# Altium integrated library Silicon Labs Clocks and Oscillators.IntLib: 678 symbols (part 13 of 45)
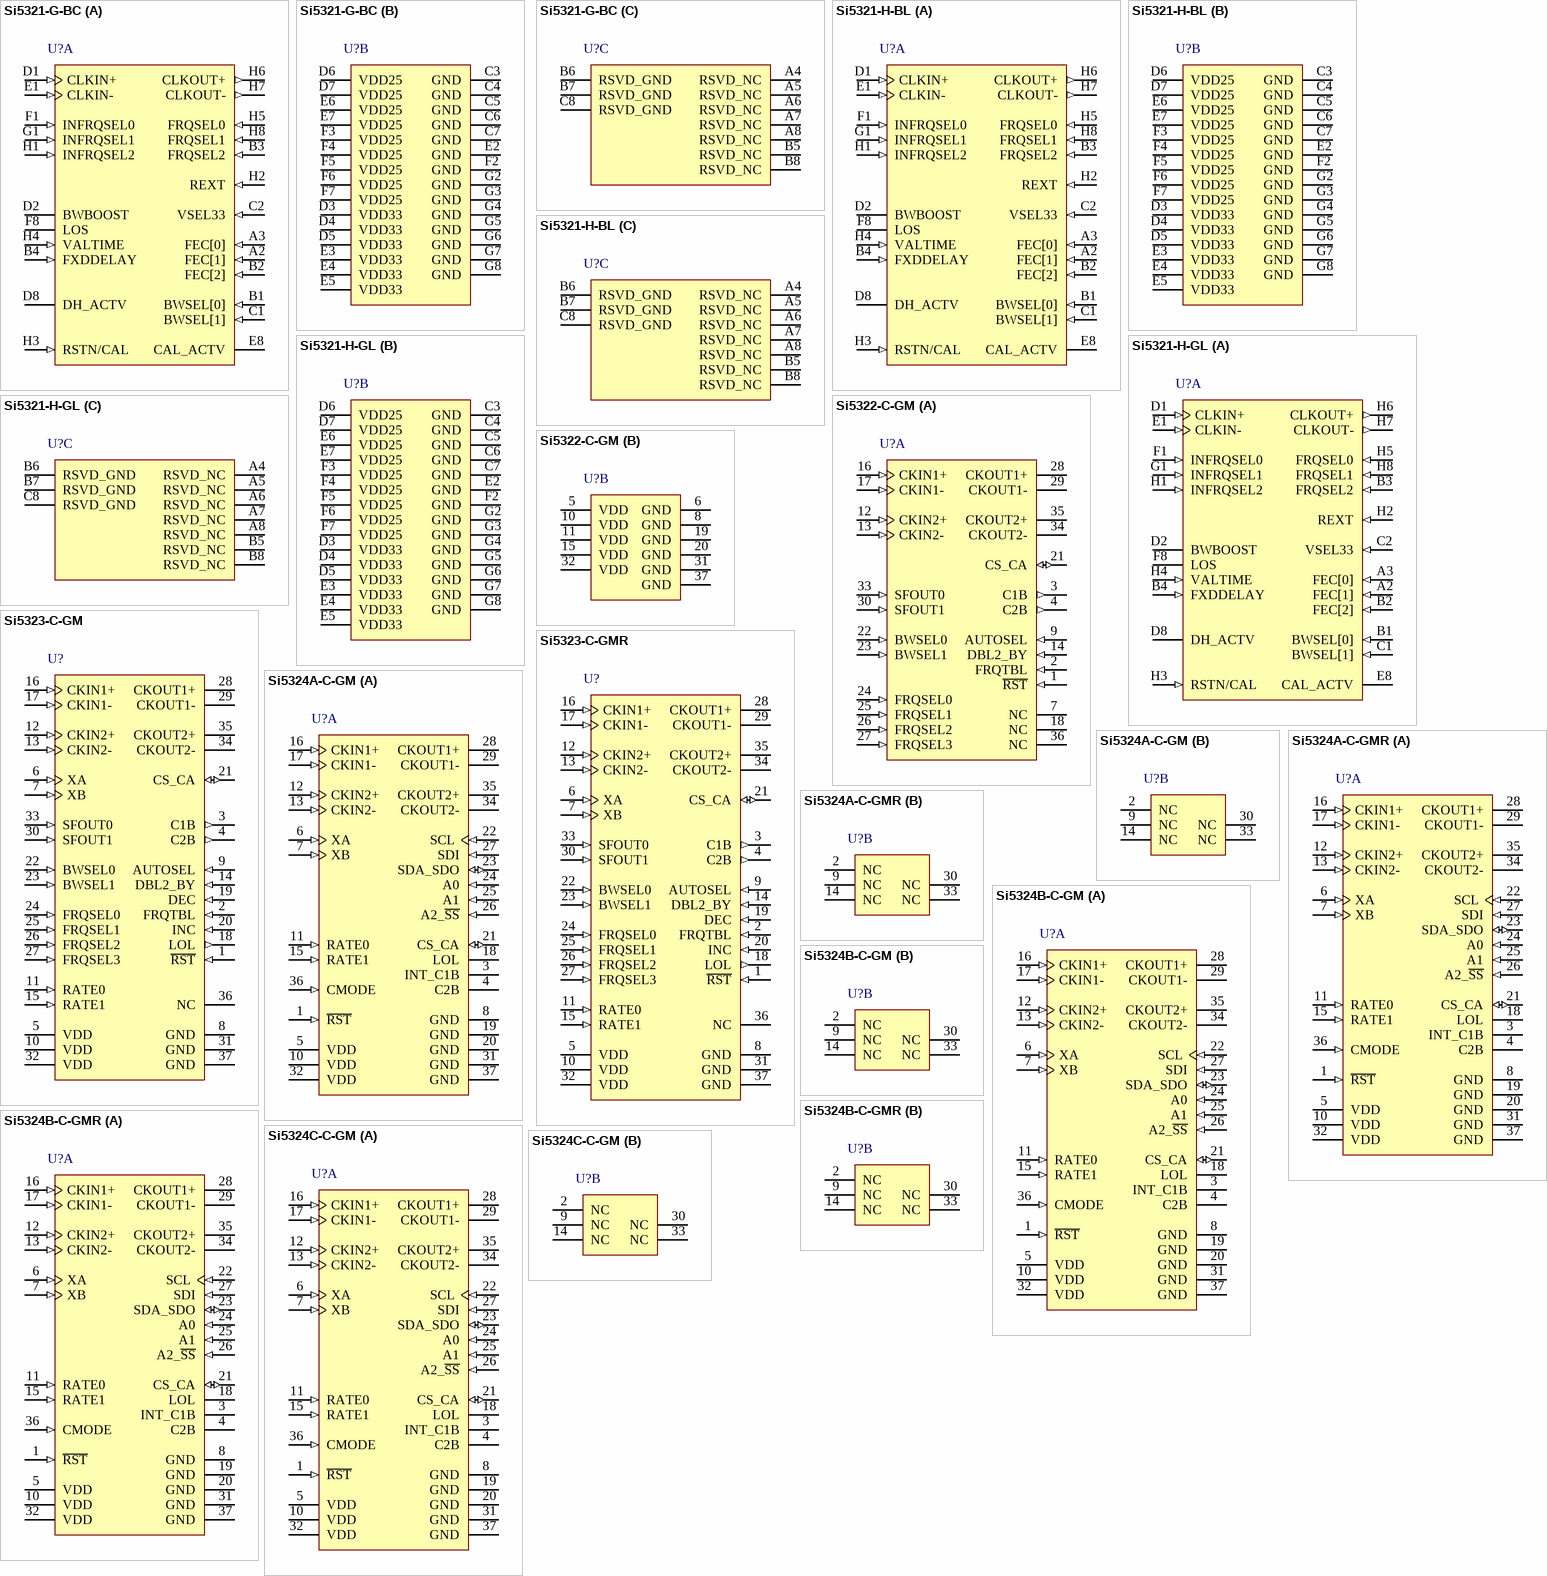
[diagram p56: symbols Si5321-G-BC to Si5324C-C-GM]

## Si5321-H-GL
designator U?
SONET / SDH Precision Clock Multiplier IC, 3.3 V, 2488 MHz Max Output, -20 to 85 degC, 63-pin BGA; Manufacturer: Silicon Labs; PartNumber: Si5321-H-GL; Output Format: CML; Output Frequency (MHz): 19; 38; 77; 155; 311; 622; 1244; 2488; Reference Inputs: 1; VDD: 3.3 V; Sub-Family: Clock Generators; DatasheetVersion: Rev. 2.5; PackageReference: PBGA-63; PackageDescription: 63-Ball Plastic Ball Grid Array, Body 9 x 9 mm, Pitch 1 mm; Supplier 1: Digi-Key; Supplier Part Number 1: SI5321-H-GL-ND; Supplier 2: Mouser; Supplier Part Number 2: 634-SI5321-H-GL; Mounting Technology: Surface Mount; Code_JEDEC: MO-192; Code_IPC: J-STD-020C; ComponentLink1Description: Manufacturer URL; ComponentLink1URL: http://www.silabs.com/; ComponentLink2Description: Datasheet; ComponentLink2URL: http://www.silabs.com/Support%20Documents/TechnicalDocs/si5321.pdf; ComponentLink3Description: Package Specification; ComponentLink3URL: http://www.silabs.com/Support%20Documents/TechnicalDocs/si5320.pdf
footprint SLAB-PBGA-63 (BGA, 63-Balls, Body 9x9mm, Pitch 1mm)
part A pins: A2 FEC[1] (in) "FEC Selection.", A3 FEC[0] (in) "FEC Selection.", B1 BWSEL[0] (in) "Bandwidth Select.", B2 FEC[2] (in) "FEC Selection.", B3 FRQSEL2 (in) "Clock Output Frequency Range Select.", B4 FXDDELAY (in) "Fixed Delay Mode.", C1 BWSEL[1] (in) "Bandwidth Select.", C2 VSEL33 (in) "Reserved.", D1 CLKIN+ (in) "System Clock Input.", D2 BWBOOST "Bandwidth Boost.", D8 DH_ACTV (hiz) "Digital Hold Mode Active.", E1 CLKIN- (in) "System Clock Input.", E8 CAL_ACTV (hiz) "Calibration Mode Active", F1 INFRQSEL0 (in) "Input Frequency Range Select.", F8 LOS (hiz) "Loss-of-Signal (LOS) Alarm for CLKIN.", G1 INFRQSEL1 (in) "Input Frequency Range Select.", H1 INFRQSEL2 (in) "Input Frequency Range Select.", H2 REXT (in) "External Biasing Resistor.", H3 RSTN/CAL (in) "Reset/Calibrate.", H4 VALTIME (in) "Clock Validation Time for LOS.", H5 FRQSEL0 (in) "Clock Output Frequency Range Select.", H6 CLKOUT+ (out) "Differential Clock Output.", H7 CLKOUT- (out) "Differential Clock Output.", H8 FRQSEL1 (in) "Clock Output Frequency Range Select."
part B pins: C3 GND (power) "Ground.", C4 GND (power) "Ground.", C5 GND (power) "Ground.", C6 GND (power) "Ground.", C7 GND (power) "Ground.", D3 VDD33 (power) "3.3 V Supply.", D4 VDD33 (power) "3.3 V Supply.", D5 VDD33 (power) "3.3 V Supply.", D6 VDD25 (power) "2.5 V Compensation Network", D7 VDD25 (power) "2.5 V Compensation Network", E2 GND (power) "Ground.", E3 VDD33 (power) "3.3 V Supply.", E4 VDD33 (power) "3.3 V Supply.", E5 VDD33 (power) "3.3 V Supply.", E6 VDD25 (power) "2.5 V Compensation Network", E7 VDD25 (power) "2.5 V Compensation Network", F2 GND (power) "Ground.", F3 VDD25 (power) "2.5 V Compensation Network", F4 VDD25 (power) "2.5 V Compensation Network", F5 VDD25 (power) "2.5 V Compensation Network", F6 VDD25 (power) "2.5 V Compensation Network", F7 VDD25 (power) "2.5 V Compensation Network", G2 GND (power) "Ground.", G3 GND (power) "Ground.", G4 GND (power) "Ground.", G5 GND (power) "Ground.", G6 GND (power) "Ground.", G7 GND (power) "Ground.", G8 GND (power) "Ground."
part C pins: A4 RSVD_NC "Reserved-No Connect.", A5 RSVD_NC "Reserved-No Connect.", A6 RSVD_NC "Reserved-No Connect.", A7 RSVD_NC "Reserved-No Connect.", A8 RSVD_NC "Reserved-No Connect.", B5 RSVD_NC "Reserved-No Connect.", B6 RSVD_GND (power) "Reserved-GND.", B7 RSVD_GND (power) "Reserved-GND.", B8 RSVD_NC "Reserved-No Connect.", C8 RSVD_GND (power) "Reserved-GND."

## Si5322-C-GM
designator U?
Pin-Programmable Precision Clock Multiplier, 1.8 / 2.5 / 3.3 V, 19 to 1050 MHz Output, -40 to 85 degC, 36-pin QFN; Manufacturer: Silicon Labs; PartNumber: Si5322-C-GM; Output Format: LVPECL; LVDS; CML; LVCMOS; Reference Inputs: 2; VDD: 1.8 V; 2.5 V; 3.3 V; Sub-Family: Clock Generators; DatasheetVersion: Rev. 0.51; PackageReference: QFN-36; PackageDescription: 36-Pin Quad-Flat No-Leads Package, Body 6 x 6 mm, Pitch 0.5 mm; Supplier 1: Digi-Key; Supplier Part Number 1: SI5322-C-GM-ND; Supplier 2: Mouser; Supplier Part Number 2: 634-SI5322-C-GM; Output Frequency (MHz): 19 to 1050; Mounting Technology: Surface Mount; Code_JEDEC: MO-220; Code_IPC: J-STD-020; ComponentLink1Description: Manufacturer URL; ComponentLink1URL: http://www.silabs.com/; ComponentLink2Description: Datasheet; ComponentLink2URL: http://www.silabs.com/Support%20Documents/TechnicalDocs/Si5322.pdf; ComponentLink3Description: Package Specification; ComponentLink3URL: http://www.silabs.com/Support%20Documents/TechnicalDocs/Si5316.pdf
footprint SLAB-QFN-36-4100x4100TP_N (QFN, 36-Leads, Body 6x6mm, Pitch 0.5mm, Thermal Pad 4.1x4.1mm, IPC Medium Density)
footprint SLAB-QFN-36-4100x4100TP_L (QFN, 36-Leads, Body 6x6mm, Pitch 0.5mm, Thermal Pad 4.1x4.1mm, IPC High Density)
footprint SLAB-QFN-36-4100x4100TP_M (QFN, 36-Leads, Body 6x6mm, Pitch 0.5mm, Thermal Pad 4.1x4.1mm, IPC Low Density)
part A pins: 1 ~{RST} (in) "External Reset.", 2 FRQTBL (in) "Frequency Table Select.", 3 C1B (out) "CKIN1 Loss of Signal.", 4 C2B (out) "CKIN2 Loss of Signal.", 7 NC "No Connect.", 9 AUTOSEL (in) "Manual/Automatic Clock Selection.", 12 CKIN2+ (in) "Clock Input 2.", 13 CKIN2- (in) "Clock Input 2.", 14 DBL2_BY (in) "Output 2 Disable/Bypass Mode Control.", 16 CKIN1+ (in) "Clock Input 1.", 17 CKIN1- (in) "Clock Input 1.", 18 NC "No Connect.", 21 CS_CA (io) "Input Clock Select/Active Clock Indicator", 22 BWSEL0 (in) "Bandwidth Select.", 23 BWSEL1 (in) "Bandwidth Select.", 24 FRQSEL0 (in) "Multiplier Select.", 25 FRQSEL1 (in) "Multiplier Select.", 26 FRQSEL2 (in) "Multiplier Select.", 27 FRQSEL3 (in) "Multiplier Select.", 28 CKOUT1+ (hiz) "Clock Output 1.", 29 CKOUT1- (hiz) "Clock Output 1.", 30 SFOUT1 (in) "Signal Format Select.", 33 SFOUT0 (in) "Signal Format Select.", 34 CKOUT2- (hiz) "Clock Output 2.", 35 CKOUT2+ (hiz) "Clock Output 2.", 36 NC "No Connect."
part B pins: 5 VDD (power) "Supply", 6 GND (power) "Ground.", 8 GND (power) "Ground.", 10 VDD (power) "Supply", 11 VDD (power) "Supply", 15 VDD (power) "Supply", 19 GND (power) "Ground.", 20 GND (power) "Ground.", 31 GND (power) "Ground.", 32 VDD (power) "Supply", 37 GND (power) "Ground Pad."

## Si5323-C-GM
designator U?
Pin-Programmable Precision Clock Multiplier / Jitter Attenuator, 1.8 / 2.5 / 3.3 V, 0.008 to 1050 MHz Output, -40 to 85 degC, 36-pin QFN; Manufacturer: Silicon Labs; PartNumber: Si5323-C-GM; Output Format: LVPECL; LVDS; CML; LVCMOS; Reference Inputs: 2; VDD: 1.8 V; 2.5 V; 3.3 V; Sub-Family: Clock Generators; DatasheetVersion: Rev. 1.0; PackageReference: QFN-36; PackageDescription: 36-Pin Quad-Flat No-Leads Package, Body 6 x 6 mm, Pitch 0.5 mm; Supplier 1: Digi-Key; Supplier Part Number 1: SI5323-C-GM-ND; Supplier 2: Mouser; Supplier Part Number 2: 634-SI5323-C-GM; Output Frequency (MHz): 0.008 to 1050; Mounting Technology: Surface Mount; Code_JEDEC: MO-220; Code_IPC: J-STD-020; ComponentLink1Description: Manufacturer URL; ComponentLink1URL: http://www.silabs.com/; ComponentLink2Description: Datasheet; ComponentLink2URL: http://www.silabs.com/Support%20Documents/TechnicalDocs/Si5323.pdf; ComponentLink3Description: Package Specification; ComponentLink3URL: http://www.silabs.com/Support%20Documents/TechnicalDocs/Si5316.pdf
footprint SLAB-QFN-36-4100x4100TP_N (QFN, 36-Leads, Body 6x6mm, Pitch 0.5mm, Thermal Pad 4.1x4.1mm, IPC Medium Density)
footprint SLAB-QFN-36-4100x4100TP_L (QFN, 36-Leads, Body 6x6mm, Pitch 0.5mm, Thermal Pad 4.1x4.1mm, IPC High Density)
footprint SLAB-QFN-36-4100x4100TP_M (QFN, 36-Leads, Body 6x6mm, Pitch 0.5mm, Thermal Pad 4.1x4.1mm, IPC Low Density)
pins: 1 ~{RST} (in) "External Reset.", 2 FRQTBL (in) "Frequency Table Select.", 3 C1B (out) "CKIN1 Loss of Signal.", 4 C2B (out) "CKIN2 Loss of Signal.", 5 VDD (power) "Supply.", 6 XA (in) "External Crystal or Reference Clock.", 7 XB (in) "External Crystal or Reference Clock.", 8 GND (power) "Ground.", 9 AUTOSEL (in) "Manual/Automatic Clock Selection.", 10 VDD (power) "Supply.", 11 RATE0 (in) "External Crystal or Reference Clock Rate.", 12 CKIN2+ (in) "Clock Input 2.", 13 CKIN2- (in) "Clock Input 2.", 14 DBL2_BY (in) "Output 2 Disable/Bypass Mode Control.", 15 RATE1 (in) "External Crystal or Reference Clock Rate.", 16 CKIN1+ (in) "Clock Input 1.", 17 CKIN1- (in) "Clock Input 1.", 18 LOL (out) "PLL Loss of Lock Indicator.", 19 DEC (in) "Skew Decrement.", 20 INC (in) "Skew Increment.", 21 CS_CA (io) "Input Clock Select/Active Clock Indicator.", 22 BWSEL0 (in) "Bandwidth Select.", 23 BWSEL1 (in) "Bandwidth Select.", 24 FRQSEL0 (in) "Multiplier Select.", 25 FRQSEL1 (in) "Multiplier Select.", 26 FRQSEL2 (in) "Multiplier Select.", 27 FRQSEL3 (in) "Multiplier Select.", 28 CKOUT1+ (hiz) "Clock Output 1.", 29 CKOUT1- (hiz) "Clock Output 1.", 30 SFOUT1 (in) "Signal Format Select.", 31 GND (power) "Ground.", 32 VDD (power) "Supply.", 33 SFOUT0 (in) "Signal Format Select.", 34 CKOUT2- (hiz) "Clock Output 2.", 35 CKOUT2+ (hiz) "Clock Output 2.", 36 NC "No Connect.", 37 GND (power) "Ground Pad."

## Si5323-C-GMR
designator U?
Pin-Programmable Precision Clock Multiplier / Jitter Attenuator, 1.8 / 2.5 / 3.3 V, 0.008 to 1050 MHz Output, -40 to 85 degC, 36-pin QFN; Manufacturer: Silicon Labs; PartNumber: Si5323-C-GMR; Output Format: LVPECL; LVDS; CML; LVCMOS; Packing: Tape and Reel; Phase Jitter (RMS): 0.3 ps; Reference Inputs: 2; VDD: 1.8 V; 2.5 V; 3.3 V; Sub-Family: Clock Generators; DatasheetVersion: Rev. 1.0; PackageReference: QFN-36; PackageDescription: 36-Pin Quad-Flat No-Leads Package, Body 6 x 6 mm, Pitch 0.5 mm; Supplier 1: Digi-Key; Supplier Part Number 1: SI5323-C-GMR-ND; Supplier 2: Mouser; Supplier Part Number 2: 634-SI5323-C-GMR; Output Frequency (MHz): 0.008 to 1050; Mounting Technology: Surface Mount; Code_JEDEC: MO-220; Code_IPC: J-STD-020; ComponentLink1Description: Manufacturer URL; ComponentLink1URL: http://www.silabs.com/; ComponentLink2Description: Datasheet; ComponentLink2URL: http://www.silabs.com/Support%20Documents/TechnicalDocs/Si5323.pdf; ComponentLink3Description: Package Specification; ComponentLink3URL: http://www.silabs.com/Support%20Documents/TechnicalDocs/Si5316.pdf
footprint SLAB-QFN-36-4100x4100TP_N (QFN, 36-Leads, Body 6x6mm, Pitch 0.5mm, Thermal Pad 4.1x4.1mm, IPC Medium Density)
footprint SLAB-QFN-36-4100x4100TP_L (QFN, 36-Leads, Body 6x6mm, Pitch 0.5mm, Thermal Pad 4.1x4.1mm, IPC High Density)
footprint SLAB-QFN-36-4100x4100TP_M (QFN, 36-Leads, Body 6x6mm, Pitch 0.5mm, Thermal Pad 4.1x4.1mm, IPC Low Density)
pins: 1 ~{RST} (in) "External Reset.", 2 FRQTBL (in) "Frequency Table Select.", 3 C1B (out) "CKIN1 Loss of Signal.", 4 C2B (out) "CKIN2 Loss of Signal.", 5 VDD (power) "Supply.", 6 XA (in) "External Crystal or Reference Clock.", 7 XB (in) "External Crystal or Reference Clock.", 8 GND (power) "Ground.", 9 AUTOSEL (in) "Manual/Automatic Clock Selection.", 10 VDD (power) "Supply.", 11 RATE0 (in) "External Crystal or Reference Clock Rate.", 12 CKIN2+ (in) "Clock Input 2.", 13 CKIN2- (in) "Clock Input 2.", 14 DBL2_BY (in) "Output 2 Disable/Bypass Mode Control.", 15 RATE1 (in) "External Crystal or Reference Clock Rate.", 16 CKIN1+ (in) "Clock Input 1.", 17 CKIN1- (in) "Clock Input 1.", 18 LOL (out) "PLL Loss of Lock Indicator.", 19 DEC (in) "Skew Decrement.", 20 INC (in) "Skew Increment.", 21 CS_CA (io) "Input Clock Select/Active Clock Indicator.", 22 BWSEL0 (in) "Bandwidth Select.", 23 BWSEL1 (in) "Bandwidth Select.", 24 FRQSEL0 (in) "Multiplier Select.", 25 FRQSEL1 (in) "Multiplier Select.", 26 FRQSEL2 (in) "Multiplier Select.", 27 FRQSEL3 (in) "Multiplier Select.", 28 CKOUT1+ (hiz) "Clock Output 1.", 29 CKOUT1- (hiz) "Clock Output 1.", 30 SFOUT1 (in) "Signal Format Select.", 31 GND (power) "Ground.", 32 VDD (power) "Supply.", 33 SFOUT0 (in) "Signal Format Select.", 34 CKOUT2- (hiz) "Clock Output 2.", 35 CKOUT2+ (hiz) "Clock Output 2.", 36 NC "No Connect.", 37 GND (power) "Ground Pad."

## Si5324A-C-GM
designator U?
Any-Frequency Precision Clock Multiplier / Jitter Attenuator, 1.8 / 2.5 / 3.3 V, 1400 MHz Max Output, -40 to 85 degC, 36-pin QFN; Manufacturer: Silicon Labs; PartNumber: Si5324A-C-GM; Output Format: LVPECL; LVDS; CML; LVCMOS; Output Frequency (MHz): 1.213 x 10^3 to 1.4 x 10^3; 2 x10^-3 to 945; 970 to 1134; Reference Inputs: 2; VDD: 1.8 V; 2.5 V; 3.3 V; Sub-Family: Clock Generators; DatasheetVersion: Rev. 1.0; PackageReference: QFN-36; PackageDescription: 36-Pin Quad-Flat No-Leads Package, Body 6 x 6 mm, Pitch 0.5 mm; Supplier 1: Digi-Key; Supplier Part Number 1: SI5324A-C-GM-ND; Supplier 2: Mouser; Supplier Part Number 2: 634-SI5324A-C-GM; Mounting Technology: Surface Mount; Code_JEDEC: MO-220; Code_IPC: J-STD-020; ComponentLink1Description: Manufacturer URL; ComponentLink1URL: http://www.silabs.com/; ComponentLink2Description: Datasheet; ComponentLink2URL: http://www.silabs.com/Support%20Documents/TechnicalDocs/Si5324.pdf; ComponentLink3Description: Package Specification; ComponentLink3URL: http://www.silabs.com/Support%20Documents/TechnicalDocs/Si5316.pdf
footprint SLAB-QFN-36-4100x4100TP_N (QFN, 36-Leads, Body 6x6mm, Pitch 0.5mm, Thermal Pad 4.1x4.1mm, IPC Medium Density)
footprint SLAB-QFN-36-4100x4100TP_L (QFN, 36-Leads, Body 6x6mm, Pitch 0.5mm, Thermal Pad 4.1x4.1mm, IPC High Density)
footprint SLAB-QFN-36-4100x4100TP_M (QFN, 36-Leads, Body 6x6mm, Pitch 0.5mm, Thermal Pad 4.1x4.1mm, IPC Low Density)
part A pins: 1 ~{RST} (in) "External Reset.", 3 INT_C1B (hiz) "Interrupt/CKIN1 Invalid Indicator.", 4 C2B (hiz) "CKIN2 Invalid Indicator.", 5 VDD (power) "Supply.", 6 XA (in) "External Crystal or Reference Clock.", 7 XB (in) "External Crystal or Reference Clock.", 8 GND (power) "Ground.", 10 VDD (power) "Supply.", 11 RATE0 (in) "External Crystal or Reference Clock Rate.", 12 CKIN2+ (in) "Clock Input 2.", 13 CKIN2- (in) "Clock Input 2.", 15 RATE1 (in) "External Crystal or Reference Clock Rate.", 16 CKIN1+ (in) "Clock Input 1.", 17 CKIN1- (in) "Clock Input 1.", 18 LOL (hiz) "PLL Loss of Lock Indicator.", 19 GND (power) "Ground.", 20 GND (power) "Ground.", 21 CS_CA (io) "Input Clock Select/Active Clock Indicator.", 22 SCL (in) "Serial Clock.", 23 SDA_SDO (io) "Serial Data.", 24 A0 (in) "Serial Port Address.", 25 A1 (in) "Serial Port Address.", 26 A2_~{SS} (in) "Serial Port Address/Slave Select.", 27 SDI (in) "Serial Data In.", 28 CKOUT1+ (hiz) "Output Clock 1.", 29 CKOUT1- (hiz) "Output Clock 1.", 31 GND (power) "Ground.", 32 VDD (power) "Supply.", 34 CKOUT2- (hiz) "Output Clock 2.", 35 CKOUT2+ (hiz) "Output Clock 2.", 36 CMODE (in) "Control Mode.", 37 GND (power) "Ground Pad."
part B pins: 2 NC "No Connection.", 9 NC "No Connection.", 14 NC "No Connection.", 30 NC "No Connection.", 33 NC "No Connection."

## Si5324A-C-GMR
designator U?
Any-Frequency Precision Clock Multiplier / Jitter Attenuator, 1.8 / 2.5 / 3.3 V, 1417 MHz Max Output, -40 to 85 degC, 36-pin QFN, Tape and Reel; Manufacturer: Silicon Labs; PartNumber: Si5324A-C-GMR; Output Format: LVPECL; LVDS; CML; LVCMOS; Output Frequency (MHz): 1.213 x 10^3 to 1.4 x 10^3; 2 x 10^-3 to 945; 970 to 1134; Phase Jitter (RMS): 0.3 ps; Reference Inputs: 2; VDD: 1.8 V; 2.5 V; 3.3 V; Sub-Family: Clock Generators; DatasheetVersion: Rev. 1.0; PackageReference: QFN-36; PackageDescription: 36-Pin Quad-Flat No-Leads Package, Body 6 x 6 mm, Pitch 0.5 mm; Supplier 1: Digi-Key; Supplier Part Number 1: SI5324A-C-GMR-ND; Supplier 2: Mouser; Supplier Part Number 2: 634-SI5324A-C-GMR; Packing: Tape and Reel; Mounting Technology: Surface Mount; Code_JEDEC: MO-220; Code_IPC: J-STD-020; ComponentLink1Description: Manufacturer URL; ComponentLink1URL: http://www.silabs.com/; ComponentLink2Description: Datasheet; ComponentLink2URL: http://www.silabs.com/Support%20Documents/TechnicalDocs/Si5324.pdf; ComponentLink3Description: Package Specification; ComponentLink3URL: http://www.silabs.com/Support%20Documents/TechnicalDocs/Si5316.pdf
footprint SLAB-QFN-36-4100x4100TP_N (QFN, 36-Leads, Body 6x6mm, Pitch 0.5mm, Thermal Pad 4.1x4.1mm, IPC Medium Density)
footprint SLAB-QFN-36-4100x4100TP_L (QFN, 36-Leads, Body 6x6mm, Pitch 0.5mm, Thermal Pad 4.1x4.1mm, IPC High Density)
footprint SLAB-QFN-36-4100x4100TP_M (QFN, 36-Leads, Body 6x6mm, Pitch 0.5mm, Thermal Pad 4.1x4.1mm, IPC Low Density)
part A pins: 1 ~{RST} (in) "External Reset.", 3 INT_C1B (hiz) "Interrupt/CKIN1 Invalid Indicator.", 4 C2B (hiz) "CKIN2 Invalid Indicator.", 5 VDD (power) "Supply.", 6 XA (in) "External Crystal or Reference Clock.", 7 XB (in) "External Crystal or Reference Clock.", 8 GND (power) "Ground.", 10 VDD (power) "Supply.", 11 RATE0 (in) "External Crystal or Reference Clock Rate.", 12 CKIN2+ (in) "Clock Input 2.", 13 CKIN2- (in) "Clock Input 2.", 15 RATE1 (in) "External Crystal or Reference Clock Rate.", 16 CKIN1+ (in) "Clock Input 1.", 17 CKIN1- (in) "Clock Input 1.", 18 LOL (hiz) "PLL Loss of Lock Indicator.", 19 GND (power) "Ground.", 20 GND (power) "Ground.", 21 CS_CA (io) "Input Clock Select/Active Clock Indicator.", 22 SCL (in) "Serial Clock.", 23 SDA_SDO (io) "Serial Data.", 24 A0 (in) "Serial Port Address.", 25 A1 (in) "Serial Port Address.", 26 A2_~{SS} (in) "Serial Port Address/Slave Select.", 27 SDI (in) "Serial Data In.", 28 CKOUT1+ (hiz) "Output Clock 1.", 29 CKOUT1- (hiz) "Output Clock 1.", 31 GND (power) "Ground.", 32 VDD (power) "Supply.", 34 CKOUT2- (hiz) "Output Clock 2.", 35 CKOUT2+ (hiz) "Output Clock 2.", 36 CMODE (in) "Control Mode.", 37 GND (power) "Ground Pad."
part B pins: 2 NC "No Connection.", 9 NC "No Connection.", 14 NC "No Connection.", 30 NC "No Connection.", 33 NC "No Connection."

## Si5324B-C-GM
designator U?
Any-Frequency Precision Clock Multiplier / Jitter Attenuator, 1.8 / 2.5 / 3.3 V, 0.002 to 808 MHz Output, -40 to 85 degC, 36-pin QFN; Manufacturer: Silicon Labs; PartNumber: Si5324B-C-GM; Output Format: LVPECL; LVDS; CML; LVCMOS; Output Frequency (MHz): 2 x10^-3 to 808; Reference Inputs: 2; VDD: 1.8 V; 2.5 V; 3.3 V; Sub-Family: Clock Generators; DatasheetVersion: Rev. 1.0; PackageReference: QFN-36; PackageDescription: 36-Pin Quad-Flat No-Leads Package, Body 6 x 6 mm, Pitch 0.5 mm; Supplier 1: Digi-Key; Supplier Part Number 1: SI5324B-C-GM-ND; Supplier 2: Mouser; Supplier Part Number 2: 634-SI5324B-C-GM; Mounting Technology: Surface Mount; Code_JEDEC: MO-220; Code_IPC: J-STD-020; ComponentLink1Description: Manufacturer URL; ComponentLink1URL: http://www.silabs.com/; ComponentLink2Description: Datasheet; ComponentLink2URL: http://www.silabs.com/Support%20Documents/TechnicalDocs/Si5324.pdf; ComponentLink3Description: Package Specification; ComponentLink3URL: http://www.silabs.com/Support%20Documents/TechnicalDocs/Si5316.pdf
footprint SLAB-QFN-36-4100x4100TP_N (QFN, 36-Leads, Body 6x6mm, Pitch 0.5mm, Thermal Pad 4.1x4.1mm, IPC Medium Density)
footprint SLAB-QFN-36-4100x4100TP_L (QFN, 36-Leads, Body 6x6mm, Pitch 0.5mm, Thermal Pad 4.1x4.1mm, IPC High Density)
footprint SLAB-QFN-36-4100x4100TP_M (QFN, 36-Leads, Body 6x6mm, Pitch 0.5mm, Thermal Pad 4.1x4.1mm, IPC Low Density)
part A pins: 1 ~{RST} (in) "External Reset.", 3 INT_C1B (hiz) "Interrupt/CKIN1 Invalid Indicator.", 4 C2B (hiz) "CKIN2 Invalid Indicator.", 5 VDD (power) "Supply.", 6 XA (in) "External Crystal or Reference Clock.", 7 XB (in) "External Crystal or Reference Clock.", 8 GND (power) "Ground.", 10 VDD (power) "Supply.", 11 RATE0 (in) "External Crystal or Reference Clock Rate.", 12 CKIN2+ (in) "Clock Input 2.", 13 CKIN2- (in) "Clock Input 2.", 15 RATE1 (in) "External Crystal or Reference Clock Rate.", 16 CKIN1+ (in) "Clock Input 1.", 17 CKIN1- (in) "Clock Input 1.", 18 LOL (hiz) "PLL Loss of Lock Indicator.", 19 GND (power) "Ground.", 20 GND (power) "Ground.", 21 CS_CA (io) "Input Clock Select/Active Clock Indicator.", 22 SCL (in) "Serial Clock.", 23 SDA_SDO (io) "Serial Data.", 24 A0 (in) "Serial Port Address.", 25 A1 (in) "Serial Port Address.", 26 A2_~{SS} (in) "Serial Port Address/Slave Select.", 27 SDI (in) "Serial Data In.", 28 CKOUT1+ (hiz) "Output Clock 1.", 29 CKOUT1- (hiz) "Output Clock 1.", 31 GND (power) "Ground.", 32 VDD (power) "Supply.", 34 CKOUT2- (hiz) "Output Clock 2.", 35 CKOUT2+ (hiz) "Output Clock 2.", 36 CMODE (in) "Control Mode.", 37 GND (power) "Ground Pad."
part B pins: 2 NC "No Connection.", 9 NC "No Connection.", 14 NC "No Connection.", 30 NC "No Connection.", 33 NC "No Connection."

## Si5324B-C-GMR
designator U?
Any-Frequency Precision Clock Multiplier / Jitter Attenuator, 1.8 / 2.5 / 3.3 V, 0.002 to 808 MHz Output, -40 to 85 degC, 36-pin QFN, Tape and Reel; Manufacturer: Silicon Labs; PartNumber: Si5324B-C-GMR; Output Format: LVPECL; LVDS; CML; LVCMOS; Output Frequency (MHz): 2 x 10^-3 to 808; Phase Jitter (RMS): 0.3 ps; Reference Inputs: 2; VDD: 1.8 V; 2.5 V; 3.3 V; Sub-Family: Clock Generators; DatasheetVersion: Rev. 1.0; PackageReference: QFN-36; PackageDescription: 36-Pin Quad-Flat No-Leads Package, Body 6 x 6 mm, Pitch 0.5 mm; Supplier 1: Digi-Key; Supplier Part Number 1: SI5324B-C-GMR-ND; Supplier 2: Mouser; Supplier Part Number 2: 634-SI5324B-C-GMR; Packing: Tape and Reel; Mounting Technology: Surface Mount; Code_JEDEC: MO-220; Code_IPC: J-STD-020; ComponentLink1Description: Manufacturer URL; ComponentLink1URL: http://www.silabs.com/; ComponentLink2Description: Datasheet; ComponentLink2URL: http://www.silabs.com/Support%20Documents/TechnicalDocs/Si5324.pdf; ComponentLink3Description: Package Specification; ComponentLink3URL: http://www.silabs.com/Support%20Documents/TechnicalDocs/Si5316.pdf
footprint SLAB-QFN-36-4100x4100TP_N (QFN, 36-Leads, Body 6x6mm, Pitch 0.5mm, Thermal Pad 4.1x4.1mm, IPC Medium Density)
footprint SLAB-QFN-36-4100x4100TP_L (QFN, 36-Leads, Body 6x6mm, Pitch 0.5mm, Thermal Pad 4.1x4.1mm, IPC High Density)
footprint SLAB-QFN-36-4100x4100TP_M (QFN, 36-Leads, Body 6x6mm, Pitch 0.5mm, Thermal Pad 4.1x4.1mm, IPC Low Density)
part A pins: 1 ~{RST} (in) "External Reset.", 3 INT_C1B (hiz) "Interrupt/CKIN1 Invalid Indicator.", 4 C2B (hiz) "CKIN2 Invalid Indicator.", 5 VDD (power) "Supply.", 6 XA (in) "External Crystal or Reference Clock.", 7 XB (in) "External Crystal or Reference Clock.", 8 GND (power) "Ground.", 10 VDD (power) "Supply.", 11 RATE0 (in) "External Crystal or Reference Clock Rate.", 12 CKIN2+ (in) "Clock Input 2.", 13 CKIN2- (in) "Clock Input 2.", 15 RATE1 (in) "External Crystal or Reference Clock Rate.", 16 CKIN1+ (in) "Clock Input 1.", 17 CKIN1- (in) "Clock Input 1.", 18 LOL (hiz) "PLL Loss of Lock Indicator.", 19 GND (power) "Ground.", 20 GND (power) "Ground.", 21 CS_CA (io) "Input Clock Select/Active Clock Indicator.", 22 SCL (in) "Serial Clock.", 23 SDA_SDO (io) "Serial Data.", 24 A0 (in) "Serial Port Address.", 25 A1 (in) "Serial Port Address.", 26 A2_~{SS} (in) "Serial Port Address/Slave Select.", 27 SDI (in) "Serial Data In.", 28 CKOUT1+ (hiz) "Output Clock 1.", 29 CKOUT1- (hiz) "Output Clock 1.", 31 GND (power) "Ground.", 32 VDD (power) "Supply.", 34 CKOUT2- (hiz) "Output Clock 2.", 35 CKOUT2+ (hiz) "Output Clock 2.", 36 CMODE (in) "Control Mode.", 37 GND (power) "Ground Pad."
part B pins: 2 NC "No Connection.", 9 NC "No Connection.", 14 NC "No Connection.", 30 NC "No Connection.", 33 NC "No Connection."

## Si5324C-C-GM
designator U?
Any-Frequency Precision Clock Multiplier / Jitter Attenuator, 1.8 / 2.5 / 3.3 V, 0.002 to 346 MHz Output, -40 to 85 degC, 36-pin QFN; Manufacturer: Silicon Labs; PartNumber: Si5324C-C-GM; Output Format: LVPECL; LVDS; CML; LVCMOS; Output Frequency (MHz): 2 x10^-3 to 346; Reference Inputs: 2; VDD: 1.8 V; 2.5 V; 3.3 V; Sub-Family: Clock Generators; DatasheetVersion: Rev. 1.0; PackageReference: QFN-36; PackageDescription: 36-Pin Quad-Flat No-Leads Package, Body 6 x 6 mm, Pitch 0.5 mm; Supplier 1: Digi-Key; Supplier Part Number 1: SI5324C-C-GM-ND; Supplier 2: Mouser; Supplier Part Number 2: 634-SI5324C-C-GM; Mounting Technology: Surface Mount; Code_JEDEC: MO-220; Code_IPC: J-STD-020; ComponentLink1Description: Manufacturer URL; ComponentLink1URL: http://www.silabs.com/; ComponentLink2Description: Datasheet; ComponentLink2URL: http://www.silabs.com/Support%20Documents/TechnicalDocs/Si5324.pdf; ComponentLink3Description: Package Specification; ComponentLink3URL: http://www.silabs.com/Support%20Documents/TechnicalDocs/Si5316.pdf
footprint SLAB-QFN-36-4100x4100TP_N (QFN, 36-Leads, Body 6x6mm, Pitch 0.5mm, Thermal Pad 4.1x4.1mm, IPC Medium Density)
footprint SLAB-QFN-36-4100x4100TP_L (QFN, 36-Leads, Body 6x6mm, Pitch 0.5mm, Thermal Pad 4.1x4.1mm, IPC High Density)
footprint SLAB-QFN-36-4100x4100TP_M (QFN, 36-Leads, Body 6x6mm, Pitch 0.5mm, Thermal Pad 4.1x4.1mm, IPC Low Density)
part A pins: 1 ~{RST} (in) "External Reset.", 3 INT_C1B (hiz) "Interrupt/CKIN1 Invalid Indicator.", 4 C2B (hiz) "CKIN2 Invalid Indicator.", 5 VDD (power) "Supply.", 6 XA (in) "External Crystal or Reference Clock.", 7 XB (in) "External Crystal or Reference Clock.", 8 GND (power) "Ground.", 10 VDD (power) "Supply.", 11 RATE0 (in) "External Crystal or Reference Clock Rate.", 12 CKIN2+ (in) "Clock Input 2.", 13 CKIN2- (in) "Clock Input 2.", 15 RATE1 (in) "External Crystal or Reference Clock Rate.", 16 CKIN1+ (in) "Clock Input 1.", 17 CKIN1- (in) "Clock Input 1.", 18 LOL (hiz) "PLL Loss of Lock Indicator.", 19 GND (power) "Ground.", 20 GND (power) "Ground.", 21 CS_CA (io) "Input Clock Select/Active Clock Indicator.", 22 SCL (in) "Serial Clock.", 23 SDA_SDO (io) "Serial Data.", 24 A0 (in) "Serial Port Address.", 25 A1 (in) "Serial Port Address.", 26 A2_~{SS} (in) "Serial Port Address/Slave Select.", 27 SDI (in) "Serial Data In.", 28 CKOUT1+ (hiz) "Output Clock 1.", 29 CKOUT1- (hiz) "Output Clock 1.", 31 GND (power) "Ground.", 32 VDD (power) "Supply.", 34 CKOUT2- (hiz) "Output Clock 2.", 35 CKOUT2+ (hiz) "Output Clock 2.", 36 CMODE (in) "Control Mode.", 37 GND (power) "Ground Pad."
part B pins: 2 NC "No Connection.", 9 NC "No Connection.", 14 NC "No Connection.", 30 NC "No Connection.", 33 NC "No Connection."

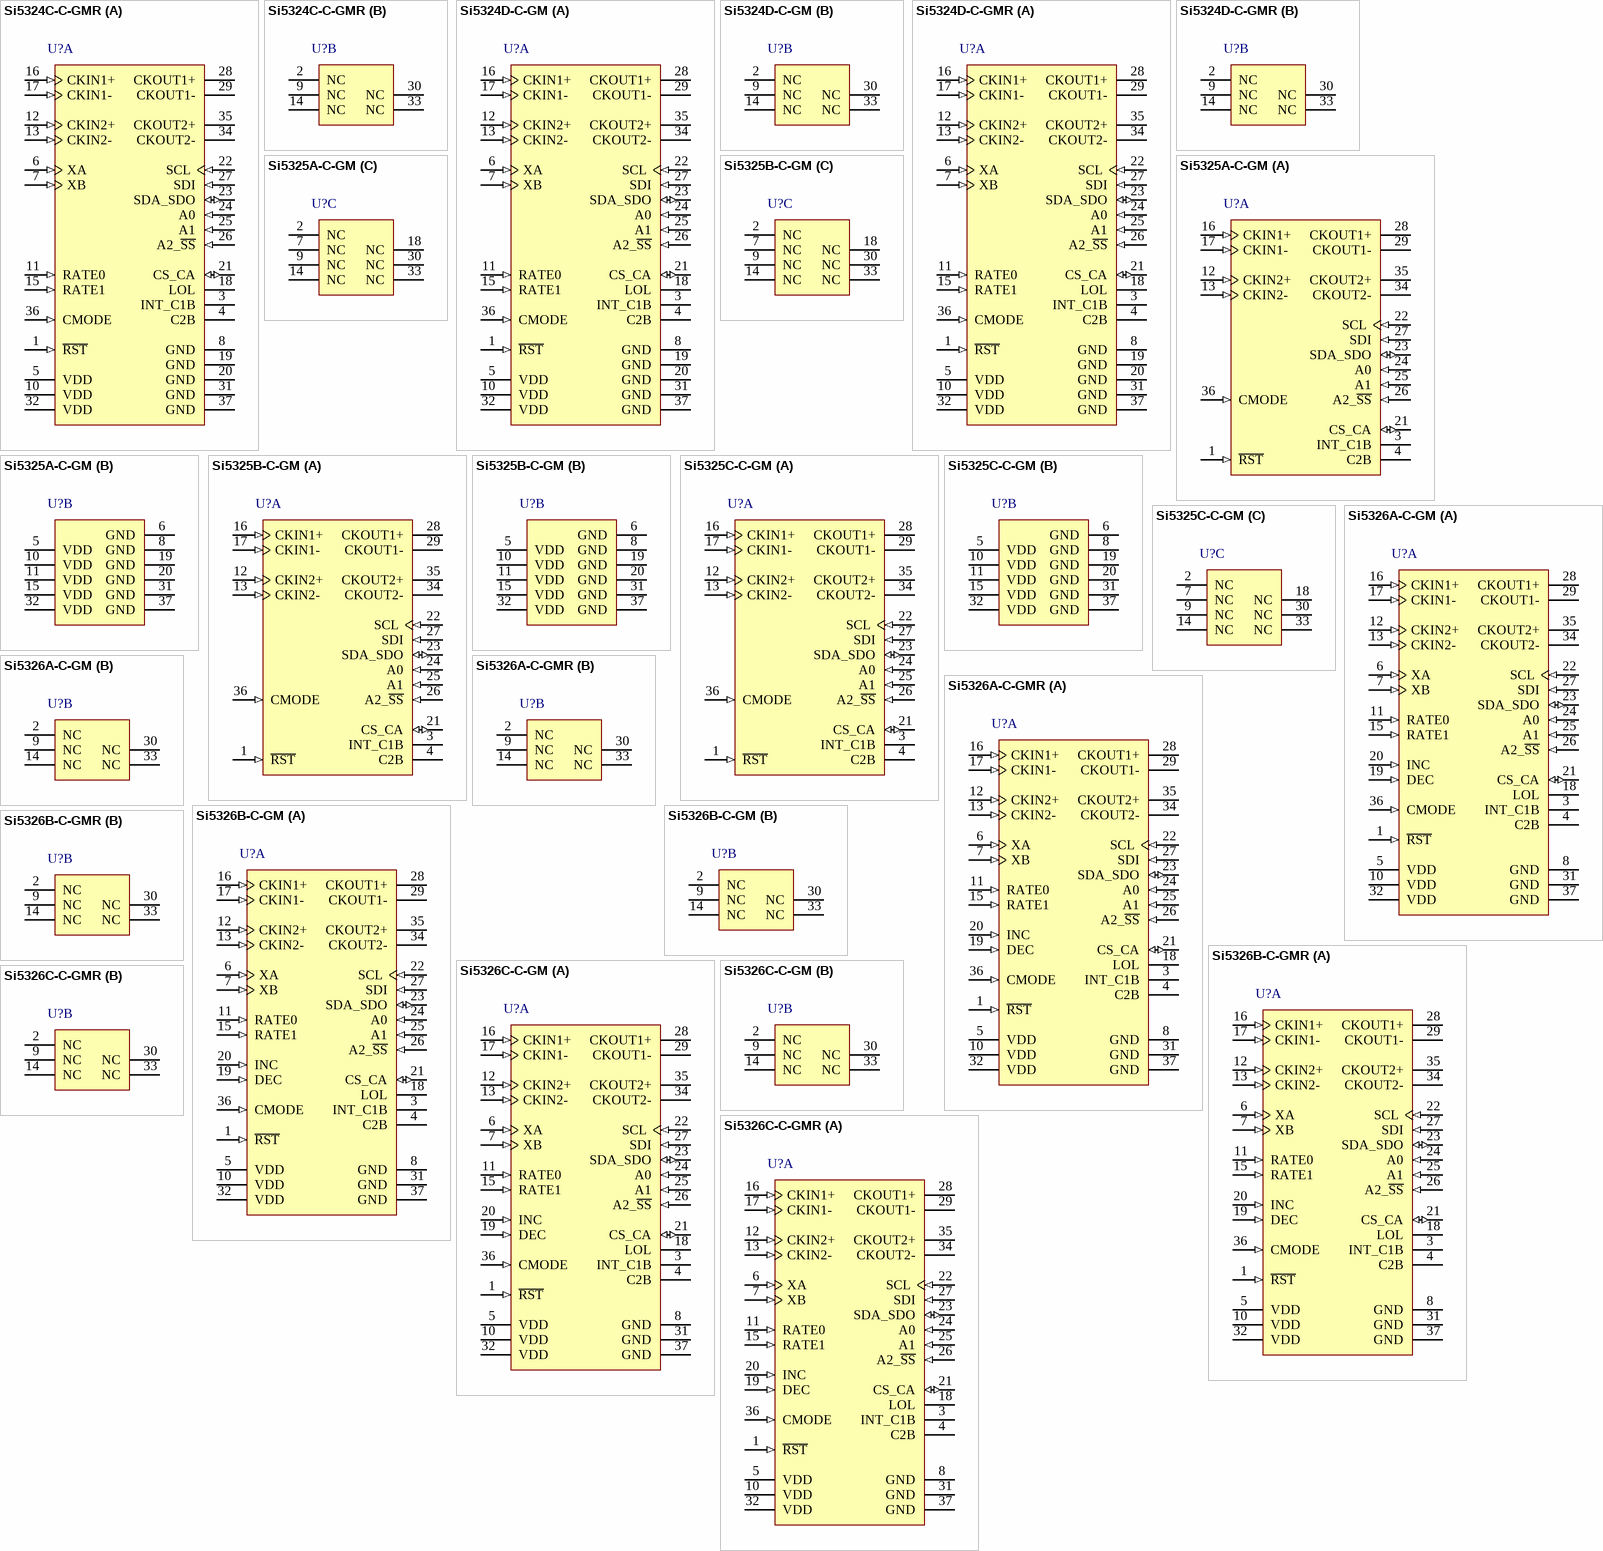
[diagram p14: symbols Si5324C-C-GMR to Si5326C-C-GMR]

## Si5324C-C-GMR
designator U?
Any-Frequency Precision Clock Multiplier / Jitter Attenuator, 1.8 / 2.5 / 3.3 V, 0.002 to 346 MHz Output, -40 to 85 degC, 36-pin QFN, Tape and Reel; Manufacturer: Silicon Labs; PartNumber: Si5324C-C-GMR; Output Format: LVPECL; LVDS; CML; LVCMOS; Output Frequency (MHz): 2 x 10^-3 to 346; Phase Jitter (RMS): 0.3 ps; Reference Inputs: 2; VDD: 1.8 V; 2.5 V; 3.3 V; Sub-Family: Clock Generators; DatasheetVersion: Rev. 1.0; PackageReference: QFN-36; PackageDescription: 36-Pin Quad-Flat No-Leads Package, Body 6 x 6 mm, Pitch 0.5 mm; Supplier 1: Digi-Key; Supplier Part Number 1: SI5324C-C-GMR-ND; Supplier 2: Mouser; Supplier Part Number 2: 634-SI5324C-C-GMR; Packing: Tape and Reel; Mounting Technology: Surface Mount; Code_JEDEC: MO-220; Code_IPC: J-STD-020; ComponentLink1Description: Manufacturer URL; ComponentLink1URL: http://www.silabs.com/; ComponentLink2Description: Datasheet; ComponentLink2URL: http://www.silabs.com/Support%20Documents/TechnicalDocs/Si5324.pdf; ComponentLink3Description: Package Specification; ComponentLink3URL: http://www.silabs.com/Support%20Documents/TechnicalDocs/Si5316.pdf
footprint SLAB-QFN-36-4100x4100TP_N (QFN, 36-Leads, Body 6x6mm, Pitch 0.5mm, Thermal Pad 4.1x4.1mm, IPC Medium Density)
footprint SLAB-QFN-36-4100x4100TP_L (QFN, 36-Leads, Body 6x6mm, Pitch 0.5mm, Thermal Pad 4.1x4.1mm, IPC High Density)
footprint SLAB-QFN-36-4100x4100TP_M (QFN, 36-Leads, Body 6x6mm, Pitch 0.5mm, Thermal Pad 4.1x4.1mm, IPC Low Density)
part A pins: 1 ~{RST} (in) "External Reset.", 3 INT_C1B (hiz) "Interrupt/CKIN1 Invalid Indicator.", 4 C2B (hiz) "CKIN2 Invalid Indicator.", 5 VDD (power) "Supply.", 6 XA (in) "External Crystal or Reference Clock.", 7 XB (in) "External Crystal or Reference Clock.", 8 GND (power) "Ground.", 10 VDD (power) "Supply.", 11 RATE0 (in) "External Crystal or Reference Clock Rate.", 12 CKIN2+ (in) "Clock Input 2.", 13 CKIN2- (in) "Clock Input 2.", 15 RATE1 (in) "External Crystal or Reference Clock Rate.", 16 CKIN1+ (in) "Clock Input 1.", 17 CKIN1- (in) "Clock Input 1.", 18 LOL (hiz) "PLL Loss of Lock Indicator.", 19 GND (power) "Ground.", 20 GND (power) "Ground.", 21 CS_CA (io) "Input Clock Select/Active Clock Indicator.", 22 SCL (in) "Serial Clock.", 23 SDA_SDO (io) "Serial Data.", 24 A0 (in) "Serial Port Address.", 25 A1 (in) "Serial Port Address.", 26 A2_~{SS} (in) "Serial Port Address/Slave Select.", 27 SDI (in) "Serial Data In.", 28 CKOUT1+ (hiz) "Output Clock 1.", 29 CKOUT1- (hiz) "Output Clock 1.", 31 GND (power) "Ground.", 32 VDD (power) "Supply.", 34 CKOUT2- (hiz) "Output Clock 2.", 35 CKOUT2+ (hiz) "Output Clock 2.", 36 CMODE (in) "Control Mode.", 37 GND (power) "Ground Pad."
part B pins: 2 NC "No Connection.", 9 NC "No Connection.", 14 NC "No Connection.", 30 NC "No Connection.", 33 NC "No Connection."

## Si5324D-C-GM
designator U?
Any-Frequency Precision Clock Multiplier / Jitter Attenuator, 1.8 / 2.5 / 3.3 V, 0.002 to 150 MHz Output, -40 to 85 degC, 36-pin QFN; Manufacturer: Silicon Labs; PartNumber: Si5324D-C-GM; Output Format: LVPECL; LVDS; CML; LVCMOS; Output Frequency (MHz): 2 x10^-3 to 150; Reference Inputs: 2; VDD: 1.8 V; 2.5 V; 3.3 V; Sub-Family: Clock Generators; DatasheetVersion: Rev. 1.0; PackageReference: QFN-36; PackageDescription: 36-Pin Quad-Flat No-Leads Package, Body 6 x 6 mm, Pitch 0.5 mm; Supplier 1: Digi-Key; Supplier Part Number 1: SI5324D-C-GM-ND; Supplier 2: Mouser; Supplier Part Number 2: 634-SI5324D-C-GM; Mounting Technology: Surface Mount; Code_JEDEC: MO-220; Code_IPC: J-STD-020; ComponentLink1Description: Manufacturer URL; ComponentLink1URL: http://www.silabs.com/; ComponentLink2Description: Datasheet; ComponentLink2URL: http://www.silabs.com/Support%20Documents/TechnicalDocs/Si5324.pdf; ComponentLink3Description: Package Specification; ComponentLink3URL: http://www.silabs.com/Support%20Documents/TechnicalDocs/Si5316.pdf
footprint SLAB-QFN-36-4100x4100TP_N (QFN, 36-Leads, Body 6x6mm, Pitch 0.5mm, Thermal Pad 4.1x4.1mm, IPC Medium Density)
footprint SLAB-QFN-36-4100x4100TP_L (QFN, 36-Leads, Body 6x6mm, Pitch 0.5mm, Thermal Pad 4.1x4.1mm, IPC High Density)
footprint SLAB-QFN-36-4100x4100TP_M (QFN, 36-Leads, Body 6x6mm, Pitch 0.5mm, Thermal Pad 4.1x4.1mm, IPC Low Density)
part A pins: 1 ~{RST} (in) "External Reset.", 3 INT_C1B (hiz) "Interrupt/CKIN1 Invalid Indicator.", 4 C2B (hiz) "CKIN2 Invalid Indicator.", 5 VDD (power) "Supply.", 6 XA (in) "External Crystal or Reference Clock.", 7 XB (in) "External Crystal or Reference Clock.", 8 GND (power) "Ground.", 10 VDD (power) "Supply.", 11 RATE0 (in) "External Crystal or Reference Clock Rate.", 12 CKIN2+ (in) "Clock Input 2.", 13 CKIN2- (in) "Clock Input 2.", 15 RATE1 (in) "External Crystal or Reference Clock Rate.", 16 CKIN1+ (in) "Clock Input 1.", 17 CKIN1- (in) "Clock Input 1.", 18 LOL (hiz) "PLL Loss of Lock Indicator.", 19 GND (power) "Ground.", 20 GND (power) "Ground.", 21 CS_CA (io) "Input Clock Select/Active Clock Indicator.", 22 SCL (in) "Serial Clock.", 23 SDA_SDO (io) "Serial Data.", 24 A0 (in) "Serial Port Address.", 25 A1 (in) "Serial Port Address.", 26 A2_~{SS} (in) "Serial Port Address/Slave Select.", 27 SDI (in) "Serial Data In.", 28 CKOUT1+ (hiz) "Output Clock 1.", 29 CKOUT1- (hiz) "Output Clock 1.", 31 GND (power) "Ground.", 32 VDD (power) "Supply.", 34 CKOUT2- (hiz) "Output Clock 2.", 35 CKOUT2+ (hiz) "Output Clock 2.", 36 CMODE (in) "Control Mode.", 37 GND (power) "Ground Pad."
part B pins: 2 NC "No Connection.", 9 NC "No Connection.", 14 NC "No Connection.", 30 NC "No Connection.", 33 NC "No Connection."

## Si5324D-C-GMR
designator U?
Any-Frequency Precision Clock Multiplier / Jitter Attenuator, 1.8 / 2.5 / 3.3 V, 0.002 to 150 MHz Output, -40 to 85 degC, 36-pin QFN, Tape and Reel; Manufacturer: Silicon Labs; PartNumber: Si5324D-C-GMR; Output Format: LVPECL; LVDS; CML; LVCMOS; Output Frequency (MHz): 2 x10^-3 to 150; Phase Jitter (RMS): 0.3 ps; Reference Inputs: 2; VDD: 1.8 V; 2.5 V; 3.3 V; Sub-Family: Clock Generators; DatasheetVersion: Rev. 1.0; PackageReference: QFN-36; PackageDescription: 36-Pin Quad-Flat No-Leads Package, Body 6 x 6 mm, Pitch 0.5 mm; Supplier 1: Digi-Key; Supplier Part Number 1: SI5324D-C-GMR-ND; Supplier 2: Mouser; Supplier Part Number 2: 634-SI5324D-C-GMR; Packing: Tape and Reel; Mounting Technology: Surface Mount; Code_JEDEC: MO-220; Code_IPC: J-STD-020; ComponentLink1Description: Manufacturer URL; ComponentLink1URL: http://www.silabs.com/; ComponentLink2Description: Datasheet; ComponentLink2URL: http://www.silabs.com/Support%20Documents/TechnicalDocs/Si5324.pdf; ComponentLink3Description: Package Specification; ComponentLink3URL: http://www.silabs.com/Support%20Documents/TechnicalDocs/Si5316.pdf
footprint SLAB-QFN-36-4100x4100TP_N (QFN, 36-Leads, Body 6x6mm, Pitch 0.5mm, Thermal Pad 4.1x4.1mm, IPC Medium Density)
footprint SLAB-QFN-36-4100x4100TP_L (QFN, 36-Leads, Body 6x6mm, Pitch 0.5mm, Thermal Pad 4.1x4.1mm, IPC High Density)
footprint SLAB-QFN-36-4100x4100TP_M (QFN, 36-Leads, Body 6x6mm, Pitch 0.5mm, Thermal Pad 4.1x4.1mm, IPC Low Density)
part A pins: 1 ~{RST} (in) "External Reset.", 3 INT_C1B (hiz) "Interrupt/CKIN1 Invalid Indicator.", 4 C2B (hiz) "CKIN2 Invalid Indicator.", 5 VDD (power) "Supply.", 6 XA (in) "External Crystal or Reference Clock.", 7 XB (in) "External Crystal or Reference Clock.", 8 GND (power) "Ground.", 10 VDD (power) "Supply.", 11 RATE0 (in) "External Crystal or Reference Clock Rate.", 12 CKIN2+ (in) "Clock Input 2.", 13 CKIN2- (in) "Clock Input 2.", 15 RATE1 (in) "External Crystal or Reference Clock Rate.", 16 CKIN1+ (in) "Clock Input 1.", 17 CKIN1- (in) "Clock Input 1.", 18 LOL (hiz) "PLL Loss of Lock Indicator.", 19 GND (power) "Ground.", 20 GND (power) "Ground.", 21 CS_CA (io) "Input Clock Select/Active Clock Indicator.", 22 SCL (in) "Serial Clock.", 23 SDA_SDO (io) "Serial Data.", 24 A0 (in) "Serial Port Address.", 25 A1 (in) "Serial Port Address.", 26 A2_~{SS} (in) "Serial Port Address/Slave Select.", 27 SDI (in) "Serial Data In.", 28 CKOUT1+ (hiz) "Output Clock 1.", 29 CKOUT1- (hiz) "Output Clock 1.", 31 GND (power) "Ground.", 32 VDD (power) "Supply.", 34 CKOUT2- (hiz) "Output Clock 2.", 35 CKOUT2+ (hiz) "Output Clock 2.", 36 CMODE (in) "Control Mode.", 37 GND (power) "Ground Pad."
part B pins: 2 NC "No Connection.", 9 NC "No Connection.", 14 NC "No Connection.", 30 NC "No Connection.", 33 NC "No Connection."

## Si5325A-C-GM
designator U?
uP-Programmable Precision Clock Multiplier, 1.8 / 2.5 / 3.3 V, 1400 MHz Max Output, -40 to 85 degC, 36-pin QFN; Manufacturer: Silicon Labs; PartNumber: Si5325A-C-GM; Output Format: LVPECL; LVDS; CML; LVCMOS; Output Frequency (MHz): 1213 to 1400; 0.002 to 945; 970 to 1134; Reference Inputs: 2; VDD: 1.8 V; 2.5 V; 3.3 V; Sub-Family: Clock Generators; DatasheetVersion: Rev. 0.5; PackageReference: QFN-36; PackageDescription: 36-Pin Quad-Flat No-Leads Package, Body 6 x 6 mm, Pitch 0.5 mm; Supplier 1: Digi-Key; Supplier Part Number 1: SI5325A-C-GM-ND; Supplier 2: Mouser; Supplier Part Number 2: 634-SI5325A-C-GM; Mounting Technology: Surface Mount; Code_JEDEC: MO-220; Code_IPC: J-STD-020; ComponentLink1Description: Manufacturer URL; ComponentLink1URL: http://www.silabs.com/; ComponentLink2Description: Datasheet; ComponentLink2URL: http://www.silabs.com/Support%20Documents/TechnicalDocs/si5325.pdf; ComponentLink3Description: Package Specification; ComponentLink3URL: http://www.silabs.com/Support%20Documents/TechnicalDocs/Si5316.pdf
footprint SLAB-QFN-36-4100x4100TP_N (QFN, 36-Leads, Body 6x6mm, Pitch 0.5mm, Thermal Pad 4.1x4.1mm, IPC Medium Density)
footprint SLAB-QFN-36-4100x4100TP_L (QFN, 36-Leads, Body 6x6mm, Pitch 0.5mm, Thermal Pad 4.1x4.1mm, IPC High Density)
footprint SLAB-QFN-36-4100x4100TP_M (QFN, 36-Leads, Body 6x6mm, Pitch 0.5mm, Thermal Pad 4.1x4.1mm, IPC Low Density)
part A pins: 1 ~{RST} (in) "External Reset.", 3 INT_C1B (hiz) "Interrupt/CKIN1 Invalid Indicator", 4 C2B (hiz) "CKIN2 Invalid Indicator.", 12 CKIN2+ (in) "Clock Input 2.", 13 CKIN2- (in) "Clock Input 2.", 16 CKIN1+ (in) "Clock Input 1.", 17 CKIN1- (in) "Clock Input 1.", 21 CS_CA (io) "Input Clock Select/Active Clock Indicator", 22 SCL (in) "Serial Clock/Serial Clock.", 23 SDA_SDO (io) "Serial Data.", 24 A0 (in) "Serial Port Address.", 25 A1 (in) "Serial Port Address.", 26 A2_~{SS} (in) "Serial Port Address/Slave Select.", 27 SDI (in) "Serial Data In.", 28 CKOUT1+ (hiz) "Output Clock 1.", 29 CKOUT1- (hiz) "Output Clock 1.", 34 CKOUT2- (hiz) "Output Clock 2.", 35 CKOUT2+ (hiz) "Output Clock 2.", 36 CMODE (in) "Control Mode."
part B pins: 5 VDD (power) "Supply.", 6 GND (power) "Ground.", 8 GND (power) "Ground.", 10 VDD (power) "Supply.", 11 VDD (power) "Supply.", 15 VDD (power) "Supply.", 19 GND (power) "Ground.", 20 GND (power) "Ground.", 31 GND (power) "Ground.", 32 VDD (power) "Supply.", 37 GND (power) "Ground Pad."
part C pins: 2 NC "No Connect.", 7 NC "No Connect.", 9 NC "No Connect.", 14 NC "No Connect.", 18 NC "No Connect.", 30 NC "No Connect.", 33 NC "No Connect."

## Si5325B-C-GM
designator U?
uP-Programmable Precision Clock Multiplier, 1.8 / 2.5 / 3.3 V, 808 MHz Max Output, -40 to 85 degC, 36-pin QFN; Manufacturer: Silicon Labs; PartNumber: Si5325B-C-GM; Output Format: LVPECL; LVDS; CML; LVCMOS; Output Frequency (MHz): 0.002 to 808; Reference Inputs: 2; VDD: 1.8 V; 2.5 V; 3.3 V; Sub-Family: Clock Generators; DatasheetVersion: Rev. 0.5; PackageReference: QFN-36; PackageDescription: 36-Pin Quad-Flat No-Leads Package, Body 6 x 6 mm, Pitch 0.5 mm; Supplier 1: Digi-Key; Supplier Part Number 1: SI5325B-C-GM-ND; Supplier 2: Mouser; Supplier Part Number 2: 634-SI5325B-C-GM; Mounting Technology: Surface Mount; Code_JEDEC: MO-220; Code_IPC: J-STD-020; ComponentLink1Description: Manufacturer URL; ComponentLink1URL: http://www.silabs.com/; ComponentLink2Description: Datasheet; ComponentLink2URL: http://www.silabs.com/Support%20Documents/TechnicalDocs/si5325.pdf; ComponentLink3Description: Package Specification; ComponentLink3URL: http://www.silabs.com/Support%20Documents/TechnicalDocs/Si5316.pdf
footprint SLAB-QFN-36-4100x4100TP_N (QFN, 36-Leads, Body 6x6mm, Pitch 0.5mm, Thermal Pad 4.1x4.1mm, IPC Medium Density)
footprint SLAB-QFN-36-4100x4100TP_L (QFN, 36-Leads, Body 6x6mm, Pitch 0.5mm, Thermal Pad 4.1x4.1mm, IPC High Density)
footprint SLAB-QFN-36-4100x4100TP_M (QFN, 36-Leads, Body 6x6mm, Pitch 0.5mm, Thermal Pad 4.1x4.1mm, IPC Low Density)
part A pins: 1 ~{RST} (in) "External Reset.", 3 INT_C1B (hiz) "Interrupt/CKIN1 Invalid Indicator", 4 C2B (hiz) "CKIN2 Invalid Indicator.", 12 CKIN2+ (in) "Clock Input 2.", 13 CKIN2- (in) "Clock Input 2.", 16 CKIN1+ (in) "Clock Input 1.", 17 CKIN1- (in) "Clock Input 1.", 21 CS_CA (io) "Input Clock Select/Active Clock Indicator", 22 SCL (in) "Serial Clock/Serial Clock.", 23 SDA_SDO (io) "Serial Data.", 24 A0 (in) "Serial Port Address.", 25 A1 (in) "Serial Port Address.", 26 A2_~{SS} (in) "Serial Port Address/Slave Select.", 27 SDI (in) "Serial Data In.", 28 CKOUT1+ (hiz) "Output Clock 1.", 29 CKOUT1- (hiz) "Output Clock 1.", 34 CKOUT2- (hiz) "Output Clock 2.", 35 CKOUT2+ (hiz) "Output Clock 2.", 36 CMODE (in) "Control Mode."
part B pins: 5 VDD (power) "Supply.", 6 GND (power) "Ground.", 8 GND (power) "Ground.", 10 VDD (power) "Supply.", 11 VDD (power) "Supply.", 15 VDD (power) "Supply.", 19 GND (power) "Ground.", 20 GND (power) "Ground.", 31 GND (power) "Ground.", 32 VDD (power) "Supply.", 37 GND (power) "Ground Pad."
part C pins: 2 NC "No Connect.", 7 NC "No Connect.", 9 NC "No Connect.", 14 NC "No Connect.", 18 NC "No Connect.", 30 NC "No Connect.", 33 NC "No Connect."

## Si5325C-C-GM
designator U?
uP-Programmable Precision Clock Multiplier, 1.8 / 2.5 / 3.3 V, 346 MHz Max Output, -40 to 85 degC, 36-pin QFN; Manufacturer: Silicon Labs; PartNumber: Si5325C-C-GM; Output Format: LVPECL; LVDS; CML; LVCMOS; Output Frequency (MHz): 0.002 to 346; Reference Inputs: 2; VDD: 1.8 V; 2.5 V; 3.3 V; Sub-Family: Clock Generators; DatasheetVersion: Rev. 0.5; PackageReference: QFN-36; PackageDescription: 36-Pin Quad-Flat No-Leads Package, Body 6 x 6 mm, Pitch 0.5 mm; Supplier 1: Digi-Key; Supplier Part Number 1: SI5325C-C-GM-ND; Supplier 2: Mouser; Supplier Part Number 2: 634-SI5325C-C-GM; Mounting Technology: Surface Mount; Code_JEDEC: MO-220; Code_IPC: J-STD-020; ComponentLink1Description: Manufacturer URL; ComponentLink1URL: http://www.silabs.com/; ComponentLink2Description: Datasheet; ComponentLink2URL: http://www.silabs.com/Support%20Documents/TechnicalDocs/si5325.pdf; ComponentLink3Description: Package Specification; ComponentLink3URL: http://www.silabs.com/Support%20Documents/TechnicalDocs/Si5316.pdf
footprint SLAB-QFN-36-4100x4100TP_N (QFN, 36-Leads, Body 6x6mm, Pitch 0.5mm, Thermal Pad 4.1x4.1mm, IPC Medium Density)
footprint SLAB-QFN-36-4100x4100TP_L (QFN, 36-Leads, Body 6x6mm, Pitch 0.5mm, Thermal Pad 4.1x4.1mm, IPC High Density)
footprint SLAB-QFN-36-4100x4100TP_M (QFN, 36-Leads, Body 6x6mm, Pitch 0.5mm, Thermal Pad 4.1x4.1mm, IPC Low Density)
part A pins: 1 ~{RST} (in) "External Reset.", 3 INT_C1B (hiz) "Interrupt/CKIN1 Invalid Indicator", 4 C2B (hiz) "CKIN2 Invalid Indicator.", 12 CKIN2+ (in) "Clock Input 2.", 13 CKIN2- (in) "Clock Input 2.", 16 CKIN1+ (in) "Clock Input 1.", 17 CKIN1- (in) "Clock Input 1.", 21 CS_CA (io) "Input Clock Select/Active Clock Indicator", 22 SCL (in) "Serial Clock/Serial Clock.", 23 SDA_SDO (io) "Serial Data.", 24 A0 (in) "Serial Port Address.", 25 A1 (in) "Serial Port Address.", 26 A2_~{SS} (in) "Serial Port Address/Slave Select.", 27 SDI (in) "Serial Data In.", 28 CKOUT1+ (hiz) "Output Clock 1.", 29 CKOUT1- (hiz) "Output Clock 1.", 34 CKOUT2- (hiz) "Output Clock 2.", 35 CKOUT2+ (hiz) "Output Clock 2.", 36 CMODE (in) "Control Mode."
part B pins: 5 VDD (power) "Supply.", 6 GND (power) "Ground.", 8 GND (power) "Ground.", 10 VDD (power) "Supply.", 11 VDD (power) "Supply.", 15 VDD (power) "Supply.", 19 GND (power) "Ground.", 20 GND (power) "Ground.", 31 GND (power) "Ground.", 32 VDD (power) "Supply.", 37 GND (power) "Ground Pad."
part C pins: 2 NC "No Connect.", 7 NC "No Connect.", 9 NC "No Connect.", 14 NC "No Connect.", 18 NC "No Connect.", 30 NC "No Connect.", 33 NC "No Connect."

## Si5326A-C-GM
designator U?
Any-Frequency Precision Clock Multiplier / Jitter Attenuator, 1.8 / 2.5 / 3.3 V, 1400 MHz Max Output -40 to 85 degC, 36-pin QFN; Manufacturer: Silicon Labs; PartNumber: Si5326A-C-GM; Output Format: LVPECL; LVDS; CML; LVCMOS; Output Frequency (MHz): 1.213 to 1400; 0.002 to 945; 970 to 1134; Reference Inputs: 2; VDD: 1.8 V; 2.5 V; 3.3 V; Sub-Family: Clock Generators; DatasheetVersion: Rev. 1.0; PackageReference: QFN-36; PackageDescription: 36-Pin Quad-Flat No-Leads Package, Body 6 x 6 mm, Pitch 0.5 mm; Supplier 1: Digi-Key; Supplier Part Number 1: SI5326A-C-GM-ND; Supplier 2: Mouser; Supplier Part Number 2: 634-SI5326A-C-GM; Mounting Technology: Surface Mount; Code_JEDEC: MO-220; Code_IPC: J-STD-020; ComponentLink1Description: Manufacturer URL; ComponentLink1URL: http://www.silabs.com/; ComponentLink2Description: Datasheet; ComponentLink2URL: https://www.silabs.com/Support%20Documents/TechnicalDocs/Si5326.pdf; ComponentLink3Description: Package Specification; ComponentLink3URL: http://www.silabs.com/Support%20Documents/TechnicalDocs/Si5316.pdf
footprint SLAB-QFN-36-4100x4100TP_N (QFN, 36-Leads, Body 6x6mm, Pitch 0.5mm, Thermal Pad 4.1x4.1mm, IPC Medium Density)
footprint SLAB-QFN-36-4100x4100TP_L (QFN, 36-Leads, Body 6x6mm, Pitch 0.5mm, Thermal Pad 4.1x4.1mm, IPC High Density)
footprint SLAB-QFN-36-4100x4100TP_M (QFN, 36-Leads, Body 6x6mm, Pitch 0.5mm, Thermal Pad 4.1x4.1mm, IPC Low Density)
part A pins: 1 ~{RST} (in) "External Reset.", 3 INT_C1B (hiz) "Interrupt/CKIN1 Invalid Indicator.", 4 C2B (hiz) "CKIN2 Invalid Indicator.", 5 VDD (power) "Supply.", 6 XA (in) "External Crystal or Reference Clock.", 7 XB (in) "External Crystal or Reference Clock.", 8 GND (power) "Ground.", 10 VDD (power) "Supply.", 11 RATE0 (in) "External Crystal or Reference Clock Rate.", 12 CKIN2+ (in) "Clock Input 2.", 13 CKIN2- (in) "Clock Input 2.", 15 RATE1 (in) "External Crystal or Reference Clock Rate.", 16 CKIN1+ (in) "Clock Input 1.", 17 CKIN1- (in) "Clock Input 1.", 18 LOL (hiz) "PLL Loss of Lock Indicator.", 19 DEC (in) "Skew Decrement.", 20 INC (in) "Skew Increment.", 21 CS_CA (io) "Input Clock Select/Active Clock Indicator.", 22 SCL (in) "Serial Clock.", 23 SDA_SDO (io) "Serial Data.", 24 A0 (in) "Serial Port Address.", 25 A1 (in) "Serial Port Address.", 26 A2_~{SS} (in) "Serial Port Address/Slave Select.", 27 SDI (in) "Serial Data In.", 28 CKOUT1+ (hiz) "Output Clock 1.", 29 CKOUT1- (hiz) "Output Clock 1.", 31 GND (power) "Ground.", 32 VDD (power) "Supply.", 34 CKOUT2- (hiz) "Output Clock 2.", 35 CKOUT2+ (hiz) "Output Clock 2.", 36 CMODE (in) "Control Mode.", 37 GND (power) "Ground Pad."
part B pins: 2 NC "No Connection.", 9 NC "No Connection.", 14 NC "No Connection.", 30 NC "No Connection.", 33 NC "No Connection."

## Si5326A-C-GMR
designator U?
Any-Frequency Precision Clock Multiplier / Jitter Attenuator, 1.8 / 2.5 / 3.3 V, 1400 MHz Max Output -40 to 85 degC, 36-pin QFN, Tape and Reel; Manufacturer: Silicon Labs; PartNumber: Si5326A-C-GMR; Output Format: LVPECL; LVDS; CML; LVCMOS; Output Frequency (MHz): 1.213 to 1400; 0.002 to 945; 970 to 1134; Phase Jitter (RMS): 0.3 ps; Reference Inputs: 2; VDD: 1.8 V; 2.5 V; 3.3 V; Sub-Family: Clock Generators; DatasheetVersion: Rev. 1.0; PackageReference: QFN-36; PackageDescription: 36-Pin Quad-Flat No-Leads Package, Body 6 x 6 mm, Pitch 0.5 mm; Supplier 1: Digi-Key; Supplier Part Number 1: SI5326A-C-GMR-ND; Supplier 2: Mouser; Supplier Part Number 2: 634-SI5326A-C-GMR; Packing: Tape and Reel; Mounting Technology: Surface Mount; Code_JEDEC: MO-220; Code_IPC: J-STD-020; ComponentLink1Description: Manufacturer URL; ComponentLink1URL: http://www.silabs.com/; ComponentLink2Description: Datasheet; ComponentLink2URL: https://www.silabs.com/Support%20Documents/TechnicalDocs/Si5326.pdf; ComponentLink3Description: Package Specification; ComponentLink3URL: http://www.silabs.com/Support%20Documents/TechnicalDocs/Si5316.pdf
footprint SLAB-QFN-36-4100x4100TP_N (QFN, 36-Leads, Body 6x6mm, Pitch 0.5mm, Thermal Pad 4.1x4.1mm, IPC Medium Density)
footprint SLAB-QFN-36-4100x4100TP_L (QFN, 36-Leads, Body 6x6mm, Pitch 0.5mm, Thermal Pad 4.1x4.1mm, IPC High Density)
footprint SLAB-QFN-36-4100x4100TP_M (QFN, 36-Leads, Body 6x6mm, Pitch 0.5mm, Thermal Pad 4.1x4.1mm, IPC Low Density)
part A pins: 1 ~{RST} (in) "External Reset.", 3 INT_C1B (hiz) "Interrupt/CKIN1 Invalid Indicator.", 4 C2B (hiz) "CKIN2 Invalid Indicator.", 5 VDD (power) "Supply.", 6 XA (in) "External Crystal or Reference Clock.", 7 XB (in) "External Crystal or Reference Clock.", 8 GND (power) "Ground.", 10 VDD (power) "Supply.", 11 RATE0 (in) "External Crystal or Reference Clock Rate.", 12 CKIN2+ (in) "Clock Input 2.", 13 CKIN2- (in) "Clock Input 2.", 15 RATE1 (in) "External Crystal or Reference Clock Rate.", 16 CKIN1+ (in) "Clock Input 1.", 17 CKIN1- (in) "Clock Input 1.", 18 LOL (hiz) "PLL Loss of Lock Indicator.", 19 DEC (in) "Skew Decrement.", 20 INC (in) "Skew Increment.", 21 CS_CA (io) "Input Clock Select/Active Clock Indicator.", 22 SCL (in) "Serial Clock.", 23 SDA_SDO (io) "Serial Data.", 24 A0 (in) "Serial Port Address.", 25 A1 (in) "Serial Port Address.", 26 A2_~{SS} (in) "Serial Port Address/Slave Select.", 27 SDI (in) "Serial Data In.", 28 CKOUT1+ (hiz) "Output Clock 1.", 29 CKOUT1- (hiz) "Output Clock 1.", 31 GND (power) "Ground.", 32 VDD (power) "Supply.", 34 CKOUT2- (hiz) "Output Clock 2.", 35 CKOUT2+ (hiz) "Output Clock 2.", 36 CMODE (in) "Control Mode.", 37 GND (power) "Ground Pad."
part B pins: 2 NC "No Connection.", 9 NC "No Connection.", 14 NC "No Connection.", 30 NC "No Connection.", 33 NC "No Connection."